# EAGLE library part CONNECTOR-18_?_* (library HyTechDevices)
18 pin connector Datasheet <https://www.molex.com/webdocs/datasheets/pdf/en-us/0430451814_PCB_HEADERS.pdf>
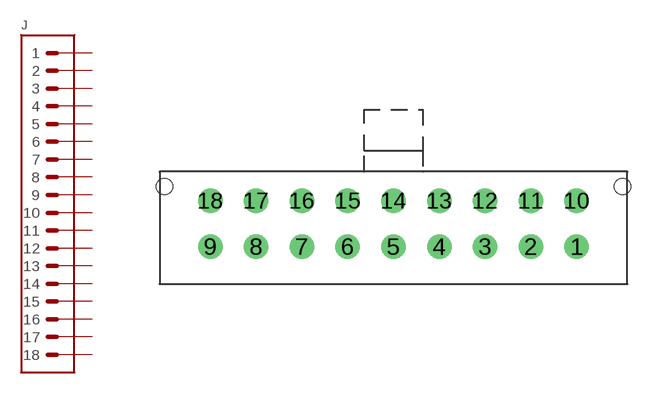
[diagram p63: symbol with the pads of MOLEX_MICROFIT_PTH_VERTICAL_18_DUAL; footprint MOLEX_MICROFIT_PTH_VERTICAL_18_DUAL]

Designator prefix J

## CONNECTOR-18_MF_T_V_ (DKPN: WM4719-ND; MANUFACTURER: MOLEX; MOPN: 538-43045-1814; MPN: 0430451814)  [MOLEX_MICROFIT_PTH_VERTICAL_18_DUAL]
1  1  pas
2  2  pas
3  3  pas
4  4  pas
5  5  pas
6  6  pas
7  7  pas
8  8  pas
9  9  pas
10  10  pas
11  11  pas
12  12  pas
13  13  pas
14  14  pas
15  15  pas
16  16  pas
17  17  pas
18  18  pas

## Footprint MOLEX_MICROFIT_PTH_VERTICAL_18_DUAL (pad centres in mm)
18 Pin Micro-Fit Vertical Header, Through-Hole, Dual Row Part <https://www.molex.com/molex/products/part-detail/pcb_headers/0430451814> Footprint <https://www.molex.com/pdm_docs/sd/430451814_sd.pdf> Plug Size <https://www.molex.com/pdm_docs/sd/430251400_sd.pdf>
drill 1.067: 1 12,-3; 2 9,-3; 3 6,-3; 4 3,-3; 5 0,-3; 6 -3,-3; 7 -6,-3; 8 -9,-3; 9 -12,-3; 10 12,0; 11 9,0; 12 6,0; 13 3,0; 14 0,0; 15 -3,0; 16 -6,0; 17 -9,0; 18 -12,0
hole 1.067 at 15,0.94
hole 1.067 at -15,0.94